# Altium schematic symbol library drv.SchLib: 2 symbols
Pins are listed as number, name and electrical type; pins without a type are passive.

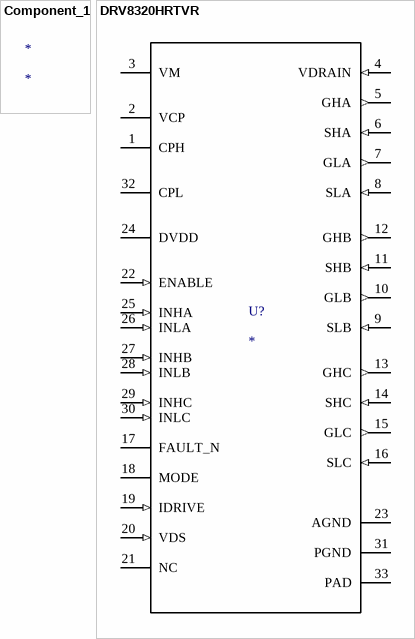
[diagram p0: symbols Component_1 to DRV8320HRTVR]

## Component_1
designator *

## DRV8320HRTVR
designator U?
No Description Available; PartNumber: DRV8320HRTVR; Manufacturer: Texas Instruments; RefDes: RefDes; Type: DEV; Value: Value; Copyright: Copyright (C) 2018 Accelerated Designs. All rights reserved
footprint RTV0032E
pins: 1 CPH, 2 VCP (power), 3 VM (power), 4 VDRAIN (in), 5 GHA (out), 6 SHA (in), 7 GLA (out), 8 SLA (in), 9 SLB (in), 10 GLB (out), 11 SHB (in), 12 GHB (out), 13 GHC (out), 14 SHC (in), 15 GLC (out), 16 SLC (in), 17 FAULT_N (oc), 18 MODE, 19 IDRIVE (in), 20 VDS (in), 21 NC, 22 ENABLE (in), 23 AGND (power), 24 DVDD (power), 25 INHA (in), 26 INLA (in), 27 INHB (in), 28 INLB (in), 29 INHC (in), 30 INLC (in), 31 PGND (power), 32 CPL, 33 PAD (power)